# Altium schematic symbol library AP7343-33W5.SchLib: 1 symbol
Pins are listed as number, name and electrical type; pins without a type are passive.

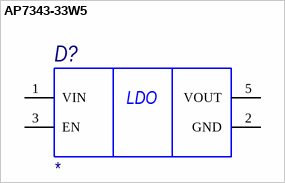
[diagram p0: symbol AP7343-33W5]

## AP7343-33W5
designator D?
Value: *
pins: 1 VIN, 2 GND, 3 EN, 5 VOUT
text: LDO